# Altium footprint library NewLibrary.PcbLib: 111 footprints (part 3 of 7)
Each footprint in its own frame and in the unit in brackets; x right, y up, seen from the top. Pads: shape width x height; smd on the part's side, far side on the other; paste and mask are expansions set on the pad; w line width, h text height; cw(c..) or ccw(c..) is an arc to the next point about the centre after c.
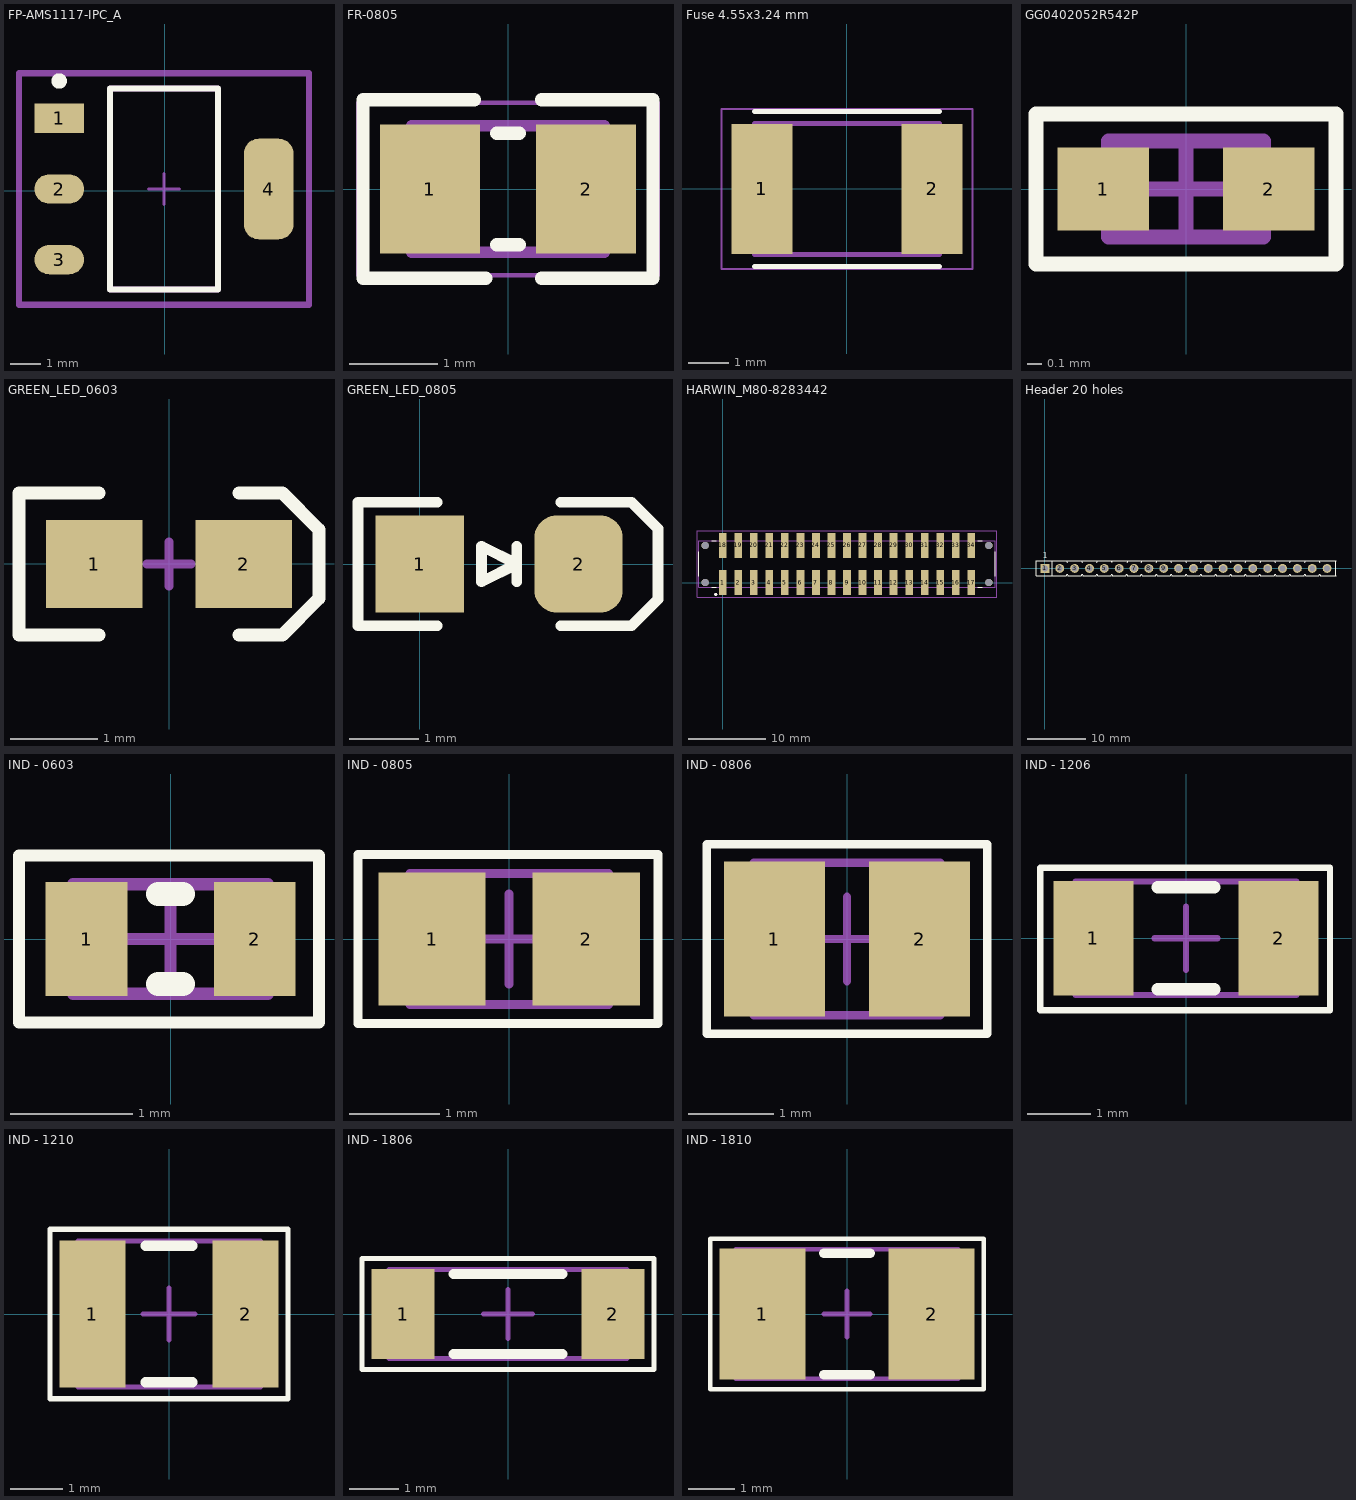
[diagram p2: the footprints below, top view; thin cyan lines are the x and y axes]

## FP-AMS1117-IPC_A [mil]
pads (4):
  rect 63.16x37.49 smd paste+0 mask+0: 1(-134.66,92.16)
  rrect100% 63.16x37.49 smd paste+0 mask+0: 2(-134.66,2) 3(-134.66,-88.16)
  rrect59% 63.16x128.43 smd paste+0 mask+0: 4(132.66,2)
Top Overlay:
  circle w9.84: c-134.66,139.8 r4.92
  lines w7.87: -70,-126.05 -70,130.05 68,130.05 68,-126.05 -70,-126.05
Top 3D Body:
  lines w7.87: -70,-126.05 -70,130.05 68,130.05 68,-126.05 -70,-126.05
Board:
  lines w7.87: -185.93,-145.74 -185.93,149.74 183.93,149.74 183.93,-145.74 -185.93,-145.74
Top Assembly:
  lines w7.87: -185.93,-145.74 -185.93,149.74 183.93,149.74 183.93,-145.74 -185.93,-145.74
Top Component Center:
  lines w3.94: -20.68,2 18.68,2 ; -1,-17.68 -1,21.68
3D body "IC_Advanced_Monolithic_Systems_AMS1117-3_3_eec.STEP": height 10, standoff 0, extent -185.93,-145.74 183.93,149.74

## FR-0805 [mm] "SMD"
pads (2):
  rect 1.14x1.47 smd: 1(-0.89,0) 2(0.89,0)
Top Overlay:
  lines w0.152: -0.381,1.016 -1.651,1.016 -1.651,-1.016 -0.254,-1.016 ; -0.127,-0.635 0.127,-0.635 ; -0.127,0.635 0.127,0.635 ; 0.381,-1.016 1.651,-1.016 1.651,1.016 0.381,1.016
Mechanical 13:
  lines w0.127: -1.1,-0.72 1.1,-0.72 1.1,0.72 -1.1,0.72 -1.1,-0.72
Mechanical 15:
  lines w0.05: -1.708,-0.983 1.708,-0.983 1.708,0.983 -1.708,0.983 -1.708,-0.983
3D body "step_temp.STEP": height 1.05, standoff 0, extent -1,-0.625 1,0.625

## Fuse 4.55x3.24 mm [mm]
pads (2):
  rect 1.5x3.2 smd: 1(-2.1,0) 2(2.1,0)
Top Overlay:
  lines w0.127: -2.275,-1.913 2.275,-1.913 ; -2.275,1.913 2.275,1.913
Mechanical 13:
  lines w0.127: -2.275,-1.62 2.275,-1.62 2.275,1.62 -2.275,1.62 -2.275,-1.62
Mechanical 15:
  lines w0.05: -3.1,-1.977 -3.1,1.977 3.1,1.977 3.1,-1.977 -3.1,-1.977
3D body "step_temp.STEP": height 0.85, standoff 0, extent -2.275,-1.62 2.275,1.62

## GG0402052R542P [mm] "TVS DIODE 5VWM 15.5VC 0402"
height 0.55
pads (2):
  rect 0.62x0.56 smd: 1(-0.56,0) 2(0.56,0)
Top Overlay:
  lines w0.1: -1.016,-0.508 -1.016,0.508 1.016,0.508 1.016,-0.508 -1.016,-0.508
Mechanical 13:
  lines w0.1: -0.525,-0.325 -0.525,0.325 0.525,0.325 0.525,-0.325 -0.525,-0.325
Mechanical 15:
  lines w0.1: -0.325,0 0.325,0 ; 0,-0.325 0,0.325
3D body "GG0402052R542P.step": height 0.55, standoff 0, extent -0.525,-0.325 0.525,0.325

## GREEN_LED_0603 [mm] "SMD"
pads (2):
  rect 1.1x1 smd mask+0.1: 1(-0.853,-0.002) 2(0.847,-0.002)
Top Overlay:
  lines w0.15: -0.803,-0.812 -1.713,-0.812 -1.713,0.808 -0.803,0.808 ; 0.797,-0.812 1.288,-0.812 1.707,-0.392 1.707,0.389 1.288,0.808 0.797,0.808
Top Courtyard:
  lines w0.1: -0.256,-0.002 0.252,-0.002 ; -0.002,-0.256 -0.002,0.252
3D body "SMD_0603LED_GREEN.STEP": height 0.98, standoff 0.1, extent -0.808,-0.508 0.808,0.492

## GREEN_LED_0805 [mil] "SMD"
pads (2):
  rect 50x55 smd: 1(0,0)
  rrect50% 50x55 smd: 2(90,0)
Top Overlay:
  lines w6: 10,-35 -35,-35 -35,35 10,35 ; 55,-10 55,10 ; 80,-35 120,-35 135,-20 135,0 135,20 120,35 80,35 ; 35,-10 55,0 35,10 35,-10
3D body "User Library-led_0805-Green.step": height 43.31, standoff 0, extent 5.24,-24.6 84.76,24.6

## HARWIN_M80-8283442 [mm] "Connector 34 Pins"
pads (38):
  rect 1x3.2 smd: 1(-0.023,-0.012) 2(1.977,-0.012) 3(3.977,-0.012) 4(5.977,-0.012) 5(7.977,-0.012) 6(9.977,-0.012) 7(11.977,-0.012) 8(13.977,-0.012) 9(15.977,-0.012) 10(17.977,-0.012) 11(19.977,-0.012) 12(21.977,-0.012) 13(23.977,-0.012) 14(25.977,-0.012) 15(27.977,-0.012) 16(29.977,-0.012) 17(31.977,-0.012) 18(-0.023,4.788) 19(1.977,4.788) 20(3.977,4.788) 21(5.977,4.788) 22(7.977,4.788) 23(9.977,4.788) 24(11.977,4.788) 25(13.977,4.788) 26(15.977,4.788) 27(17.977,4.788) 28(19.977,4.788) 29(21.977,4.788) 30(23.977,4.788) 31(25.977,4.788) 32(27.977,4.788) 33(29.977,4.788) 34(31.977,4.788)
  round 0.95 hole 0.95 unplated: ""(-2.273,0.008) ""(-2.273,4.768) ""(34.227,0.008) ""(34.227,4.768)
Top Overlay:
  circle w0.2: c-0.912,-1.52 r0.1
  lines w0.127: -3.073,0.828 -3.073,3.948 ; -1.453,-0.592 -0.843,-0.592 ; -1.453,5.368 -0.843,5.368 ; 32.797,-0.592 33.407,-0.592 ; 32.797,5.368 33.407,5.368 ; 35.027,0.828 35.027,3.948
Mechanical 13:
  circle w0.2: c-0.912,-1.52 r0.1
  lines w0.127: -3.073,-0.592 35.027,-0.592 35.027,5.368 -3.073,5.368 -3.073,-0.592
Mechanical 15:
  lines w0.05: -3.323,-1.862 -3.323,6.638 35.277,6.638 35.277,-1.862 -3.323,-1.862
3D body "m80-8283442.x_t": height 9.1, standoff 0.14, extent -2.999,-1.419 34.901,6.143

## Header 20 holes [mm]
pads (20):
  rect 1.52x1.52 hole 1.02: 1(0,0)
  round 1.52 hole 1.02: 2(2.54,0) 3(5.08,0) 4(7.62,0) 5(10.16,0) 6(12.7,0) 7(15.24,0) 8(17.78,0) 9(20.32,0) 10(22.86,0) 11(25.4,0) 12(27.94,0) 13(30.48,0) 14(33.02,0) 15(35.56,0) 16(38.1,0) 17(40.64,0) 18(43.18,0) 19(45.72,0) 20(48.26,0)
Top Overlay:
  lines w0.2: -1.524,-1.27 1.27,-1.27 ; -1.52,-1.27 -1.52,1.27 0.635,1.27 1.016,1.27 3.683,1.27 3.81,1.016 3.937,1.27 6.223,1.27 6.35,1.016 6.477,1.27 8.763,1.27 8.89,1.016 9.017,1.27 11.303,1.27 11.43,1.016 11.557,1.27 13.97,1.27 14.097,1.016 14.224,1.27 16.383,1.27 16.51,1.016 16.637,1.27 18.923,1.27 19.05,1.016 19.177,1.27 21.463,1.27 21.59,1.016 21.717,1.27 24.003,1.27 24.13,1.016 24.257,1.27 26.543,1.27 26.67,1.016 26.797,1.27 29.083,1.27 29.21,1.016 29.337,1.27 31.623,1.27 31.75,1.016 31.877,1.27 34.163,1.27 34.29,1.016 34.417,1.27 36.703,1.27 36.83,1.016 36.957,1.27 39.243,1.27 39.37,1.016 39.497,1.27 41.783,1.27 41.91,1.016 42.037,1.27 44.323,1.27 44.45,1.016 44.577,1.27 46.863,1.27 46.99,1.016 47.117,1.27 47.625,1.27 49.53,1.27 49.784,1.27 ; 1.27,1.27 1.27,-1.27 ; 49.78,-1.27 49.78,1.27 ; 49.784,-1.27 47.117,-1.27 46.99,-1.016 46.863,-1.27 44.577,-1.27 44.45,-1.016 44.323,-1.27 42.037,-1.27 41.91,-1.016 41.783,-1.27 39.497,-1.27 39.37,-1.016 39.243,-1.27 36.83,-1.27 36.703,-1.016 36.576,-1.27 34.417,-1.27 34.29,-1.016 34.163,-1.27 31.877,-1.27 31.75,-1.016 31.623,-1.27 29.337,-1.27 29.21,-1.016 29.083,-1.27 26.797,-1.27 26.67,-1.016 26.543,-1.27 24.257,-1.27 24.13,-1.016 24.003,-1.27 21.717,-1.27 21.59,-1.016 21.463,-1.27 19.177,-1.27 19.05,-1.016 18.923,-1.27 16.637,-1.27 16.51,-1.016 16.383,-1.27 14.097,-1.27 13.97,-1.016 13.843,-1.27 11.557,-1.27 11.43,-1.016 11.303,-1.27 9.017,-1.27 8.89,-1.016 8.763,-1.27 6.477,-1.27 6.35,-1.016 6.223,-1.27 3.937,-1.27 3.81,-1.016 3.683,-1.27 3.175,-1.27 1.27,-1.27
  text "1" at -0.381,1.778 h1

## IC4518 [mm]

## IND - 0603 [mm] "Inductor SMD - 1608 - KEMET"
height 0.9
pads (2):
  rect 0.67x0.94 smd: 1(-0.69,0) 2(0.69,0)
Top Overlay:
  lines w0.1: -1.245,-0.686 -1.245,0.686 1.219,0.686 1.219,-0.686 -1.245,-0.686
  lines w0.2: -0.1,-0.37 0.1,-0.37 ; -0.1,0.37 0.1,0.37
Mechanical 13:
  lines w0.1: -0.8,-0.45 0.8,-0.45 0.8,0.45 -0.8,0.45 -0.8,-0.45
Mechanical 15:
  lines w0.1: -0.45,0 0.45,0 ; 0,-0.45 0,0.45
3D body "IND - 0603.step": height 0.9, standoff 0, extent -0.8,-0.45 0.8,0.45

## IND - 0805 [mm] "Inductor SMD - 2012 - KEMET"
height 1.05
pads (2):
  rect 1.19x1.47 smd: 1(-0.855,0) 2(0.855,0)
Top Overlay:
  lines w0.1: -1.676,-0.94 1.651,-0.94 1.651,0.94 -1.676,0.94 -1.676,-0.94
Mechanical 13:
  lines w0.1: -1.1,-0.725 -1.1,0.725 1.1,0.725 1.1,-0.725 -1.1,-0.725
Mechanical 15:
  lines w0.1: -0.5,0 0.5,0 ; 0,-0.5 0,0.5
3D body "IND - 0805.step": height 1.05, standoff 0, extent -1.1,-0.725 1.1,0.725

## IND - 0806 [mm] "Inductor SMD - 2016 - KEMET"
height 1.8
pads (2):
  rect 1.19x1.82 smd: 1(-0.855,0) 2(0.855,0)
Top Overlay:
  lines w0.1: -1.651,-1.118 1.651,-1.118 1.651,1.118 -1.651,1.118 -1.651,-1.118
Mechanical 13:
  lines w0.1: -1.1,-0.9 1.1,-0.9 1.1,0.9 -1.1,0.9 -1.1,-0.9
Mechanical 15:
  lines w0.1: -0.5,0 0.5,0 ; 0,-0.5 0,0.5
3D body "IND - 0806.step": height 1.8, standoff 0, extent -1.1,-0.9 1.1,0.9

## IND - 1206 [mm] "Inductor SMD - 3216 - KEMET"
height 1.8
pads (2):
  rect 1.27x1.82 smd: 1(-1.47,0) 2(1.47,0)
Top Overlay:
  lines w0.1: -2.311,-1.143 2.286,-1.143 2.286,1.118 -2.311,1.118 -2.311,-1.143
  lines w0.2: -0.45,-0.81 0.45,-0.81 ; -0.45,0.81 0.45,0.81
Mechanical 13:
  lines w0.1: -1.75,-0.9 -1.75,0.9 1.75,0.9 1.75,-0.9 -1.75,-0.9
Mechanical 15:
  lines w0.1: -0.5,0 0.5,0 ; 0,-0.5 0,0.5
3D body "IND - 1206.step": height 1.8, standoff 0, extent -1.75,-0.9 1.75,0.9

## IND - 1210 [mm] "Inductor SMD - 3225 - KEMET"
height 2.8
pads (2):
  rect 1.27x2.82 smd: 1(-1.47,0) 2(1.47,0)
Top Overlay:
  lines w0.1: -2.286,-1.626 -2.286,1.626 2.286,1.626 2.286,-1.626 -2.286,-1.626
  lines w0.2: -0.45,-1.31 0.45,-1.31 ; -0.45,1.31 0.45,1.31
Mechanical 13:
  lines w0.1: -1.75,-1.4 -1.75,1.4 1.75,1.4 1.75,-1.4 -1.75,-1.4
Mechanical 15:
  lines w0.1: -0.5,0 0.5,0 ; 0,-0.5 0,0.5
3D body "IND - 1210.step": height 2.8, standoff 0, extent -1.75,-1.4 1.75,1.4

## IND - 1806 [mm] "Inductor SMD - 4516 - KEMET"
height 2.8
pads (2):
  rect 1.27x1.82 smd: 1(-2.12,0) 2(2.12,0)
Top Overlay:
  lines w0.1: -2.946,-1.118 2.946,-1.118 2.946,1.118 -2.946,1.118 -2.946,-1.118
  lines w0.2: -1.1,-0.81 1.1,-0.81 ; -1.1,0.81 1.1,0.81
Mechanical 13:
  lines w0.1: -2.4,-0.9 -2.4,0.9 2.4,0.9 2.4,-0.9 -2.4,-0.9
Mechanical 15:
  lines w0.1: -0.5,0 0.5,0 ; 0,-0.5 0,0.5
3D body "IND - 1806.step": height 2.8, standoff 0, extent -2.4,-0.9 2.4,0.9

## IND - 1810 [mm] "Inductor SMD - 4525 - KEMET"
height 2.8
pads (2):
  rect 1.86x2.82 smd: 1(-1.825,0) 2(1.825,0)
Top Overlay:
  lines w0.1: -2.946,-1.626 2.946,-1.626 2.946,1.626 -2.946,1.626 -2.946,-1.626
  lines w0.2: -0.5,-1.31 0.5,-1.31 ; -0.5,1.31 0.5,1.31
Mechanical 13:
  lines w0.1: -2.4,-1.4 2.4,-1.4 2.4,1.4 -2.4,1.4 -2.4,-1.4
Mechanical 15:
  lines w0.1: -0.5,0 0.5,0 ; 0,-0.5 0,0.5
3D body "IND - 1810.step": height 2.8, standoff 0, extent -2.4,-1.4 2.4,1.4